# EAGLE library part ADXL362 (library ADXL362)
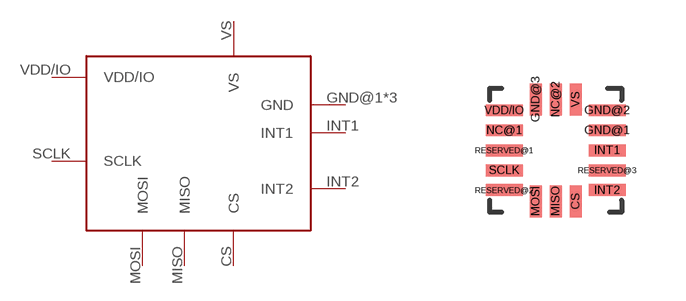
[diagram p0: symbol with the pads of TFLGA-16/3.3MMX3.1MM; footprint TFLGA-16/3.3MMX3.1MM]

Designator prefix -

## ADXL362  [TFLGA-16/3.3MMX3.1MM]
CS  CS
GND@1  GND
GND@2  GND
GND@3  GND
INT1  INT1
INT2  INT2
MISO  MISO
MOSI  MOSI
SCLK  SCLK
VDD/IO  VDD/IO
VS  VS

## Footprint TFLGA-16/3.3MMX3.1MM (pad centres in mm)
smd 0.3 x 0.8: CS 0.5,-1.275; GND@3 -0.5,1.275; MISO 0,-1.275; MOSI -0.5,-1.275; NC@2 0,1.275; VS 0.5,1.275
smd 0.925 x 0.3: GND@1 1.288,0.5; GND@2 1.288,1; INT1 1.288,0; INT2 1.288,-1; NC@1 -1.288,0.5; RESERVED@1 -1.288,0; RESERVED@2 -1.288,-1; RESERVED@3 1.288,-0.5; SCLK -1.288,-0.5; VDD/IO -1.288,1